# Altium footprint library UWR1A101MCL1GB.PcbLib: 3 footprints
Each footprint in its own frame and in the unit in brackets; x right, y up, seen from the top. Pads: shape width x height; smd on the part's side, far side on the other; paste and mask are expansions set on the pad; w line width, h text height; cw(c..) or ccw(c..) is an arc to the next point about the centre after c.
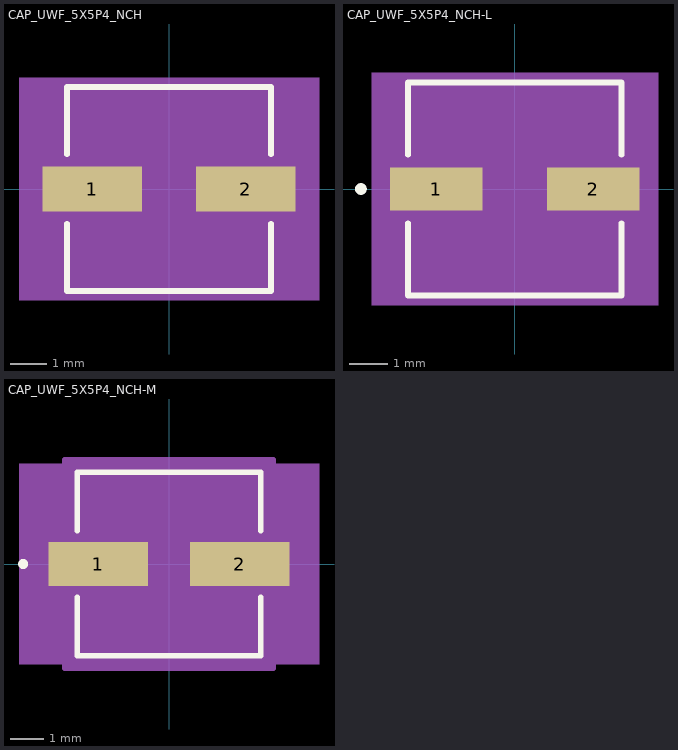
[diagram p0: the footprints below, top view; thin cyan lines are the x and y axes]

## CAP_UWF_5X5P4_NCH [mil]
pads (2):
  rect 107x48 smd paste+0 mask+0: 1(-82.5,0) 2(82.5,0)
Top Overlay:
  lines w6: -109.5,-37.1 -109.5,-109.5 109.5,-109.5 109.5,-37.1 ; -109.5,37.1 -109.5,109.5 109.5,109.5 109.5,37.1
Mechanical 5:
  region: 161,-119.5 -161,-119.5 -161,119.5 161,119.5
Mechanical 13:
  circle w0: c-84.5,0 r0
  lines w1: -104.5,-52.25 -52.25,-104.5 ; -104.5,52.25 -52.25,104.5 ; -104.5,-104.5 104.5,-104.5 104.5,104.5 -104.5,104.5 -104.5,-104.5
Mechanical 15:
  region: -114.5,-34 -146,-34 -146,34 -114.5,34 -114.5,114.5 114.5,114.5 114.5,34 146,34 146,-34 114.5,-34 114.5,-114.5 -114.5,-114.5
  lines w6: -146,-34 -146,34 -114.5,34 -114.5,114.5 114.5,114.5 114.5,34 146,34 146,-34 114.5,-34 114.5,-114.5 -114.5,-114.5 -114.5,-34 -146,-34
3D body "CAP_UWF_5X5P4_NCH.step": height 219.09, standoff 0, extent -115.98,-104.49 115.98,104.49

## CAP_UWF_5X5P4_NCH-L [mil]
pads (2):
  rect 95x44 smd paste+0 mask+0: 1(-80.5,0) 2(80.5,0)
Top Overlay:
  circle w6: c-158,0 r3
  lines w6: -109.5,-35.1 -109.5,-109.5 109.5,-109.5 109.5,-35.1 ; -109.5,35.1 -109.5,109.5 109.5,109.5 109.5,35.1
Mechanical 5:
  region: 147,-119.5 -147,-119.5 -147,119.5 147,119.5
Mechanical 13:
  circle w0: c-84.5,0 r3
  lines w1: -104.5,-52.25 -52.25,-104.5 ; -104.5,52.25 -52.25,104.5 ; -104.5,-104.5 104.5,-104.5 104.5,104.5 -104.5,104.5 -104.5,-104.5
Mechanical 15:
  region: -108.5,-26 -132,-26 -132,26 -108.5,26 -108.5,108.5 108.5,108.5 108.5,26 132,26 132,-26 108.5,-26 108.5,-108.5 -108.5,-108.5
  lines w6: -132,-26 -132,26 -108.5,26 -108.5,108.5 108.5,108.5 108.5,26 132,26 132,-26 108.5,-26 108.5,-108.5 -108.5,-108.5 -108.5,-26 -132,-26
3D body "CAP_UWF_5X5P4_NCH.step": height 219.09, standoff 0, extent -115.98,-104.49 115.98,104.49

## CAP_UWF_5X5P4_NCH-M [mil]
pads (2):
  rect 119x52 smd paste+0 mask+0: 1(-84.5,0) 2(84.5,0)
Top Overlay:
  circle w6: c-174,0 r3
  lines w6: -109.5,-39.1 -109.5,-109.5 109.5,-109.5 109.5,-39.1 ; -109.5,39.1 -109.5,109.5 109.5,109.5 109.5,39.1
Mechanical 5:
  region: 179,-119.5 -179,-119.5 -179,119.5 179,119.5
Mechanical 13:
  circle w0: c-84.5,0 r3
  lines w1: -104.5,-52.25 -52.25,-104.5 ; -104.5,52.25 -52.25,104.5 ; -104.5,-104.5 104.5,-104.5 104.5,104.5 -104.5,104.5 -104.5,-104.5
Mechanical 15:
  region: -124.5,-46 -164,-46 -164,46 -124.5,46 -124.5,124.5 124.5,124.5 124.5,46 164,46 164,-46 124.5,-46 124.5,-124.5 -124.5,-124.5
  lines w6: -164,-46 -164,46 -124.5,46 -124.5,124.5 124.5,124.5 124.5,46 164,46 164,-46 124.5,-46 124.5,-124.5 -124.5,-124.5 -124.5,-46 -164,-46
3D body "CAP_UWF_5X5P4_NCH.step": height 219.09, standoff 0, extent -115.98,-104.49 115.98,104.49